# Altium schematic symbol library BLM18PG121SN1D.SchLib: 2 symbols
Pins are listed as number, name and electrical type; pins without a type are passive.

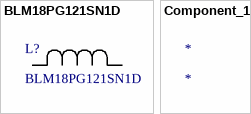
[diagram p0: symbols BLM18PG121SN1D to Component_1]

## BLM18PG121SN1D
designator L?
No Description Available; Mfr_Name: Murata; Type: DEV; Copyright: Copyright (C) 2022 Ultra Librarian. All rights reserved.; Manufacturer_Part_Number: BLM18PG121SN1D; RefDes: RefDes
footprint IND_BLM18_0603_MUR
pins: 1, 2

## Component_1
designator *